# Altium footprint library IC_DIP.PCBLIB: 23 footprints (part 1 of 2)
Each footprint in its own frame and in the unit in brackets; x right, y up, seen from the top. Pads: shape width x height; smd on the part's side, far side on the other; paste and mask are expansions set on the pad; w line width, h text height; cw(c..) or ccw(c..) is an arc to the next point about the centre after c.
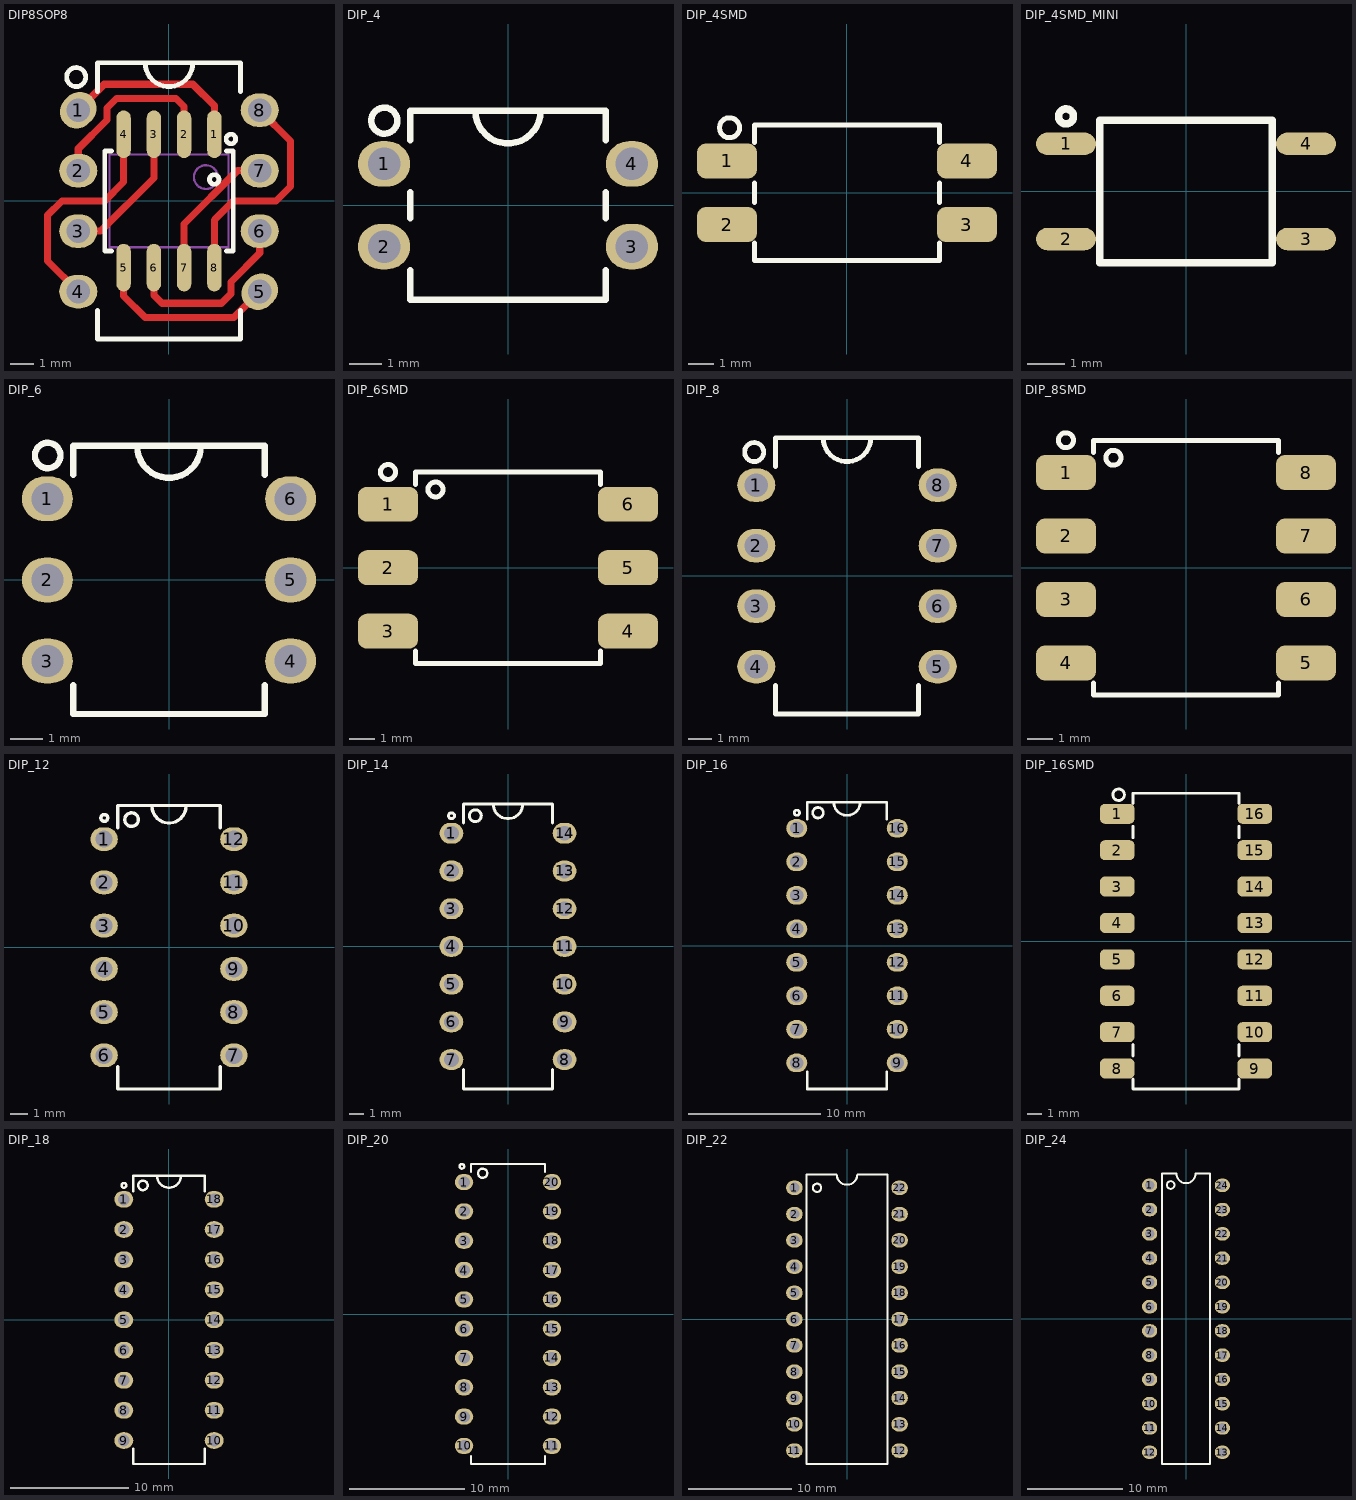
[diagram p0: the footprints below, top view; thin cyan lines are the x and y axes]

## DIP8SOP8 [mm] "DIP, 8-Leads, 0.300\" lead span , 0.100\" lead pitch"
height 5.334
pads (16):
  oval 1.4x1.6 / inner round 1.4 / far side oval 1.4x2.2 hole 1 rot 135: 1(-3.81,3.81) 5(3.81,-3.81)
  oval 0.6x2 smd: 1(1.905,2.8) 2(0.635,2.8) 3(-0.635,2.8) 4(-1.905,2.8) 5(-1.905,-2.8) 6(-0.635,-2.8) 7(0.635,-2.8) 8(1.905,-2.8)
  oval 1.6x1.4 / inner round 1.4 / far side oval 2.2x1.4 hole 1: 2(-3.81,1.27) 3(-3.81,-1.27) 4(-3.81,-3.81) 6(3.81,-1.27) 7(3.81,1.27) 8(3.81,3.81)
TopLayer:
  lines w0.3: -3.81,-3.81 -5.1,-2.52 -5.1,-0.6 -4.5,0 -2.7,0 -1.905,0.795 -1.905,2.8 ; -3.81,-1.27 -2.87,-1.27 -0.635,0.965 -0.635,2.8 ; -3.81,1.27 -3.81,2.19 -2.6,3.4 -2.6,3.9 -2.2,4.3 0.3,4.3 0.635,3.965 0.635,2.8 ; -3.81,3.81 -2.72,4.9 1,4.9 1.905,3.995 1.905,2.8 ; -1.905,-2.8 -1.905,-3.995 -1,-4.9 2.72,-4.9 3.81,-3.81 ; -0.635,-2.8 -0.635,-3.965 -0.3,-4.3 2.2,-4.3 2.6,-3.9 2.6,-3.4 3.81,-2.19 3.81,-1.27 ; 0.635,-2.8 0.635,-0.965 2.87,1.27 3.81,1.27 ; 1.905,-2.8 1.905,-0.795 2.7,0 4.5,0 5.1,0.6 5.1,2.52 3.81,3.81
TopOverlay:
  circle w0.2: c-3.9,5.2 r0.4
  circle w0.2: c1.9,0.9 r0.2
  circle w0.2: c2.6,2.6 r0.2
  lines w0.2: -3,-4.6 -3,-5.8 3,-5.8 3,-4.6 ; -3,4.6 -3,5.8 3,5.8 3,4.6 ; -2.4,-2.1 -2.7,-2.1 -2.7,2.1 -2.4,2.1 ; -1,5.8 ccw(c0,5.8) 1,5.8 ; 2.4,-2.1 2.7,-2.1 2.7,2.1 2.4,2.1
Mechanical13:
  circle w0.1: c1.55,1 r0.5
  lines w0.1: -2.5,-1.95 2.5,-1.95 2.5,1.95 -2.5,1.95 -2.5,-1.95
3D body "CircuitWorks-DIP8.step": height 4.19, standoff -2.67, extent -3.937,-5.7 3.937,5.73
3D body "User Library-so8-3.step": height 1.7, standoff 0, extent -2.45,-3 2.45,3

## DIP_4 [mm] "BRIDGE DIODE, DIP, pitch 2.54mm, 300mil Width"
pads (4):
  oval 1.6x1.4 / inner round 1.4 / far side oval 2.2x1.4 hole 1: 1(-3.81,1.27) 2(-3.81,-1.27) 3(3.81,-1.27) 4(3.81,1.27)
TopOverlay:
  circle w0.2: c-3.8,2.6 r0.4
  lines w0.2: -3,-2 -3,-2.9 3,-2.9 3,-2 ; -3,-0.4 -3,0.4 ; -3,2 -3,2.9 3,2.9 3,2 ; -1,2.9 ccw(c0,2.9) 1,2.9 ; 3,-0.4 3,0.4
3D body "CircuitWorks-DIP4.step": height 4.31, standoff -3.28, extent -4,-2.77 4,2.77

## DIP_4SMD [mm] "DIP4, pitch 2.54mm, 300mil Width SMD"
pads (4):
  rrect50% 2.4x1.4 smd: 1(-4.8,1.27) 2(-4.8,-1.27) 3(4.8,-1.27) 4(4.8,1.27)
TopOverlay:
  circle w0.2: c-4.7,2.6 r0.4
  lines w0.2: -3.7,-2 -3.7,-2.7 3.7,-2.7 3.7,-2 ; -3.7,-0.4 -3.7,0.4 ; -3.7,2 -3.7,2.7 3.7,2.7 3.7,2 ; 3.7,-0.4 3.7,0.4
3D body "User Library-FOD817.step": height 4.6, standoff 0, extent -5.23,-2.55 5.23,2.55

## DIP_4SMD_MINI [mm] "SMD MINI FLAT, HCPL-181, pitch:2.54mm, 4.4x3.6mm"
height 3
pads (4):
  oval 1.6x0.6 smd: 1(-3.2,1.27) 2(-3.2,-1.27) 3(3.2,-1.27) 4(3.2,1.27)
TopOverlay:
  circle w0.2: c-3.2,2 r0.2
  lines w0.2: -2.3,-1.9 2.3,-1.9 2.3,1.9 -2.3,1.9 -2.3,-1.9
3D body "User Library-HCPL-181-1.STEP": height 2.1, standoff 0, extent -3.5,-1.8 3.5,1.8

## DIP_6 [mm] "DIP, pitch 2.54mm, 300mil Width"
pads (6):
  oval 1.6x1.4 / inner round 1.4 / far side oval 2.2x1.4 hole 1: 1(-3.81,2.54) 2(-3.81,0) 3(-3.81,-2.54) 4(3.81,-2.54) 5(3.81,0) 6(3.81,2.54)
TopOverlay:
  circle w0.2: c-3.8,3.9 r0.4
  lines w0.2: -3,-3.3 -3,-4.2 3,-4.2 3,-3.3 ; -3,3.3 -3,4.2 3,4.2 3,3.3 ; -1,4.2 ccw(c0,4.2) 1,4.2
3D body "CircuitWorks-DIP6.step": height 4.31, standoff -3.28, extent -4,-4.04 4,4.04

## DIP_6SMD [mm] "DIP6 SMD Package"
pads (6):
  rrect50% 2.4x1.4 smd: 1(-4.8,2.54) 2(-4.8,0) 3(-4.8,-2.54) 4(4.8,-2.54) 5(4.8,0) 6(4.8,2.54)
TopOverlay:
  circle w0.2: c-4.8,3.83 r0.3
  circle w0.2: c-2.9,3.13 r0.3
  lines w0.2: -3.7,-3.33 -3.7,-3.83 3.7,-3.83 3.7,-3.33 ; -3.7,3.33 -3.7,3.83 3.7,3.83 3.7,3.33
3D body "User Library-N06C.step": height 3.82, standoff 0, extent -4.94,-3.56 4.94,3.56

## DIP_8 [mm] "DIP, pitch 2.54mm, 300mil Width"
pads (8):
  oval 1.6x1.4 / inner round 1.4 / far side oval 2.2x1.4 hole 1: 1(-3.81,3.81) 2(-3.81,1.27) 3(-3.81,-1.27) 4(-3.81,-3.81) 5(3.81,-3.81) 6(3.81,-1.27) 7(3.81,1.27) 8(3.81,3.81)
TopOverlay:
  circle w0.2: c-3.9,5.2 r0.4
  lines w0.2: -3,-4.6 -3,-5.8 3,-5.8 3,-4.6 ; -3,4.6 -3,5.8 3,5.8 3,4.6 ; -1,5.8 ccw(c0,5.8) 1,5.8
3D body "CircuitWorks-DIP8.step": height 4.19, standoff -2.67, extent -3.937,-5.7 3.937,5.73

## DIP_8SMD [mm] "DIP8 SMD Package"
pads (8):
  rrect50% 2.4x1.4 smd: 1(-4.8,3.81) 2(-4.8,1.27) 3(-4.8,-1.27) 4(-4.8,-3.81) 5(4.8,-3.81) 6(4.8,-1.27) 7(4.8,1.27) 8(4.8,3.81)
TopOverlay:
  circle w0.2: c-4.8,5.1 r0.3
  circle w0.2: c-2.9,4.4 r0.3
  lines w0.2: -3.7,-4.6 -3.7,-5.1 3.7,-5.1 3.7,-4.6 ; -3.7,4.6 -3.7,5.1 3.7,5.1 3.7,4.6
3D body "SW3dPS-pdip8-smd.STEP": height 5.08, standoff 0, extent -5.15,-4.955 5.15,4.955

## DIP_12 [mm] "DIP, pitch 2.54mm, 300mil Width"
pads (12):
  oval 1.6x1.4 / inner round 1.4 / far side oval 2.2x1.4 hole 1: 1(-3.81,6.35) 2(-3.81,3.81) 3(-3.81,1.27) 4(-3.81,-1.27) 5(-3.81,-3.81) 6(-3.81,-6.35) 7(3.81,-6.35) 8(3.81,-3.81) 9(3.81,-1.27) 10(3.81,1.27) 11(3.81,3.81) 12(3.81,6.35)
TopOverlay:
  circle w0.2: c-2.2,7.5 r0.4
  circle w0.2: c-3.8,7.6 r0.2
  lines w0.2: -3,-7.03 -3,-8.33 3,-8.33 3,-7.03 ; -3,7.03 -3,8.33 3,8.33 3,7.03 ; -1,8.3 ccw(c0,8.3) 1,8.3

## DIP_14 [mm] "DIP, pitch 2.54mm, 300mil Width"
pads (14):
  oval 1.6x1.4 / inner round 1.4 / far side oval 2.2x1.4 hole 1: 1(-3.81,7.62) 2(-3.81,5.08) 3(-3.81,2.54) 4(-3.81,0) 5(-3.81,-2.54) 6(-3.81,-5.08) 7(-3.81,-7.62) 8(3.81,-7.62) 9(3.81,-5.08) 10(3.81,-2.54) 11(3.81,0) 12(3.81,2.54) 13(3.81,5.08) 14(3.81,7.62)
TopOverlay:
  circle w0.2: c-3.8,8.8 r0.2
  circle w0.2: c-2.2,8.8 r0.4
  lines w0.2: -3,-8.3 -3,-9.6 3,-9.6 3,-8.3 ; -3,8.3 -3,9.6 3,9.6 3,8.3 ; -1,9.6 ccw(c0,9.6) 1,9.6
3D body "CircuitWorks-DIP-14.step": height 3.81, standoff -3.17, extent -4,-9.525 4,9.525

## DIP_16 [mm] "DIP, pitch 2.54mm, 300mil Width"
pads (16):
  oval 1.6x1.4 / inner round 1.4 / far side oval 2.2x1.4 hole 1: 1(-3.81,8.89) 2(-3.81,6.35) 3(-3.81,3.81) 4(-3.81,1.27) 5(-3.81,-1.27) 6(-3.81,-3.81) 7(-3.81,-6.35) 8(-3.81,-8.89) 9(3.81,-8.89) 10(3.81,-6.35) 11(3.81,-3.81) 12(3.81,-1.27) 13(3.81,1.27) 14(3.81,3.81) 15(3.81,6.35) 16(3.81,8.89)
TopOverlay:
  circle w0.2: c-3.8,10.07 r0.2
  circle w0.2: c-2.2,10.07 r0.4
  lines w0.2: -3,-9.57 -3,-10.87 3,-10.87 3,-9.57 ; -3,9.57 -3,10.87 3,10.87 3,9.57 ; -1,10.87 ccw(c0,10.87) 1,10.87
3D body "CircuitWorks-DIP 16 IC.step": height 5.1, standoff -3.3, extent -3.935,-10 3.935,10

## DIP_16SMD [mm] "DIP4, pitch 2.54mm, 300mil Width SMD"
pads (16):
  rrect50% 2.4x1.4 smd: 1(-4.8,8.89) 2(-4.8,6.35) 3(-4.8,3.81) 4(-4.8,1.27) 5(-4.8,-1.27) 6(-4.8,-3.81) 7(-4.8,-6.35) 8(-4.8,-8.89) 9(4.8,-8.89) 10(4.8,-6.35) 11(4.8,-3.81) 12(4.8,-1.27) 13(4.8,1.27) 14(4.8,3.81) 15(4.8,6.35) 16(4.8,8.89)
TopOverlay:
  circle w0.2: c-4.7,10.22 r0.4
  lines w0.2: -3.7,-9.62 -3.7,-10.32 3.7,-10.32 3.7,-9.62 ; -3.7,-8.02 -3.7,-7.22 ; -3.7,7.22 -3.7,8.02 ; -3.7,9.62 -3.7,10.32 3.7,10.32 3.7,9.62 ; 3.7,-8.02 3.7,-7.22 ; 3.7,7.22 3.7,8.02
3D body "User Library-FOD817.step": height 4.6, standoff 0, extent -5.23,5.07 5.23,10.17
3D body "User Library-FOD817.step": height 4.6, standoff 0, extent -5.23,-0.01 5.23,5.09
3D body "User Library-FOD817.step": height 4.6, standoff 0, extent -5.23,-5.09 5.23,0.01
3D body "User Library-FOD817.step": height 4.6, standoff 0, extent -5.23,-10.17 5.23,-5.07

## DIP_18 [mm] "DIP, pitch 2.54mm, 300mil Width"
pads (18):
  oval 1.6x1.4 / inner round 1.4 / far side oval 2.2x1.4 hole 1: 1(-3.81,10.16) 2(-3.81,7.62) 3(-3.81,5.08) 4(-3.81,2.54) 5(-3.81,0) 6(-3.81,-2.54) 7(-3.81,-5.08) 8(-3.81,-7.62) 9(-3.81,-10.16) 10(3.81,-10.16) 11(3.81,-7.62) 12(3.81,-5.08) 13(3.81,-2.54) 14(3.81,0) 15(3.81,2.54) 16(3.81,5.08) 17(3.81,7.62) 18(3.81,10.16)
TopOverlay:
  circle w0.2: c-2.2,11.34 r0.4
  circle w0.2: c-3.8,11.34 r0.2
  lines w0.2: -3,-10.84 -3,-12.14 3,-12.14 3,-10.84 ; -3,10.84 -3,12.14 3,12.14 3,10.84 ; -1,12.14 ccw(c0,12.14) 1,12.14
3D body "User Library-DIP18-300.step": height 5.08, standoff -2.49, extent -3.935,-11.495 3.935,11.495

## DIP_20 [mm] "DIP, pitch 2.54mm, 300mil Width"
pads (20):
  oval 1.6x1.4 / inner round 1.4 / far side oval 2.2x1.4 hole 1: 1(-3.81,11.43) 2(-3.81,8.89) 3(-3.81,6.35) 4(-3.81,3.81) 5(-3.81,1.27) 6(-3.81,-1.27) 7(-3.81,-3.81) 8(-3.81,-6.35) 9(-3.81,-8.89) 10(-3.81,-11.43) 11(3.81,-11.43) 12(3.81,-8.89) 13(3.81,-6.35) 14(3.81,-3.81) 15(3.81,-1.27) 16(3.81,1.27) 17(3.81,3.81) 18(3.81,6.35) 19(3.81,8.89) 20(3.81,11.43)
TopOverlay:
  circle w0.2: c-4,12.8 r0.2
  circle w0.2: c-2.2,12.2 r0.4
  lines w0.2: -3.2,-12.3 -3.2,-13 3.2,-13 3.2,-12.3 ; -3.2,12.3 -3.2,13 3.2,13 3.2,12.3
3D body "User Library-20 pin dip.step": height 5.05, standoff -1.17, extent -3.937,-12.89 3.937,12.891

## DIP_22 [mm] "DIP, pitch 2.54mm, 400mil Width, 28X10mm"
pads (22):
  oval 1.6x1.4 / inner round 1.4 / far side oval 2.2x1.4 hole 1: 1(-5.08,12.7) 2(-5.08,10.16) 3(-5.08,7.62) 4(-5.08,5.08) 5(-5.08,2.54) 6(-5.08,0) 7(-5.08,-2.54) 8(-5.08,-5.08) 9(-5.08,-7.62) 10(-5.08,-10.16) 11(-5.08,-12.7) 12(5.08,-12.7) 13(5.08,-10.16) 14(5.08,-7.62) 15(5.08,-5.08) 16(5.08,-2.54) 17(5.08,0) 18(5.08,2.54) 19(5.08,5.08) 20(5.08,7.62) 21(5.08,10.16) 22(5.08,12.7)
TopOverlay:
  circle w0.2: c-2.9,12.7 r0.4
  lines w0.2: -3.9,-14 3.9,-14 3.9,14 1,14 cw(c0,14) -1,14 -3.9,14 -3.9,-14

## DIP_24 [mm] "DIP, pitch 2.54mm, 300mil Width"
pads (24):
  oval 1.6x1.4 / inner round 1.4 / far side oval 2.2x1.4 hole 1: 1(-3.81,13.97) 2(-3.81,11.43) 3(-3.81,8.89) 4(-3.81,6.35) 5(-3.81,3.81) 6(-3.81,1.27) 7(-3.81,-1.27) 8(-3.81,-3.81) 9(-3.81,-6.35) 10(-3.81,-8.89) 11(-3.81,-11.43) 12(-3.81,-13.97) 13(3.81,-13.97) 14(3.81,-11.43) 15(3.81,-8.89) 16(3.81,-6.35) 17(3.81,-3.81) 18(3.81,-1.27) 19(3.81,1.27) 20(3.81,3.81) 21(3.81,6.35) 22(3.81,8.89) 23(3.81,11.43) 24(3.81,13.97)
TopOverlay:
  circle w0.2: c-1.6,14 r0.4
  lines w0.2: -2.5,-15.2 -2.5,15.2 -1,15.2 ccw(c0,15.2) 1,15.2 2.5,15.2 2.5,-15.2 -2.5,-15.2